# Altium schematic symbol library M2_Holder_9260NGWGNV.SchLib: 1 symbol
Pins are listed as number, name and electrical type; pins without a type are passive.

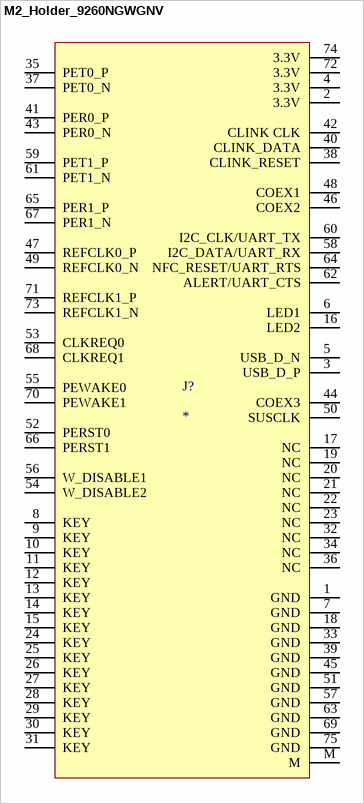
[diagram p0: symbol M2_Holder_9260NGWGNV]

## M2_Holder_9260NGWGNV
designator J?
pins: 1 GND, 2 3.3V, 3 USB_D_P, 4 3.3V, 5 USB_D_N, 6 LED1, 7 GND, 8 KEY, 9 KEY, 10 KEY, 11 KEY, 12 KEY, 13 KEY, 14 KEY, 15 KEY, 16 LED2, 17 NC, 18 GND, 19 NC, 20 NC, 21 NC, 22 NC, 23 NC, 24 KEY, 25 KEY, 26 KEY, 27 KEY, 28 KEY, 29 KEY, 30 KEY, 31 KEY, 32 NC, 33 GND, 34 NC, 35 PET0_P, 36 NC, 37 PET0_N, 38 CLINK_RESET, 39 GND, 40 CLINK_DATA, 41 PER0_P, 42 CLINK CLK, 43 PER0_N, 44 COEX3, 45 GND, 46 COEX2, 47 REFCLK0_P, 48 COEX1, 49 REFCLK0_N, 50 SUSCLK, 51 GND, 52 PERST0, 53 CLKREQ0, 54 W_DISABLE2, 55 PEWAKE0, 56 W_DISABLE1, 57 GND, 58 I2C_DATA/UART_RX, 59 PET1_P, 60 I2C_CLK/UART_TX, 61 PET1_N, 62 ALERT/UART_CTS, 63 GND, 64 NFC_RESET/UART_RTS, 65 PER1_P, 66 PERST1, 67 PER1_N, 68 CLKREQ1, 69 GND, 70 PEWAKE1, 71 REFCLK1_P, 72 3.3V, 73 REFCLK1_N, 74 3.3V, 75 GND, M